# Altium footprint library mystery-LI.PcbLib: 10 footprints
Each footprint in its own frame and in the unit in brackets; x right, y up, seen from the top. Pads: shape width x height; smd on the part's side, far side on the other; paste and mask are expansions set on the pad; w line width, h text height; cw(c..) or ccw(c..) is an arc to the next point about the centre after c.
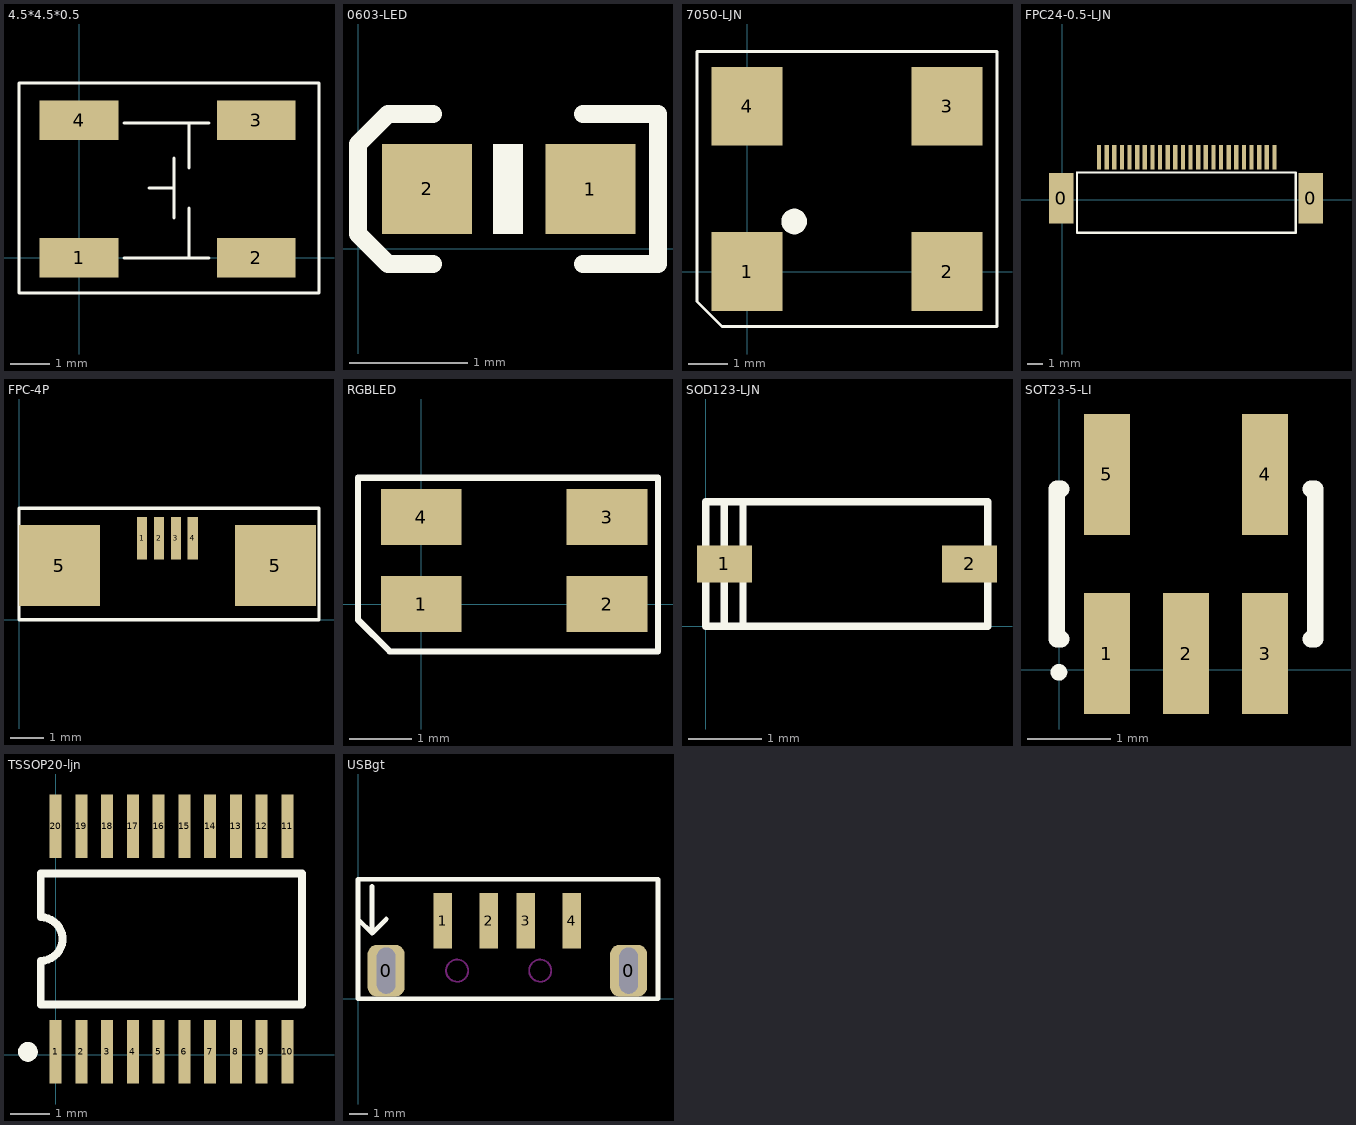
[diagram p0: the footprints below, top view; thin cyan lines are the x and y axes]

## 4.5*4.5*0.5 [mm]
pads (4):
  rect 2x1 smd: 1(0,0) 2(4.5,0) 3(4.5,3.5) 4(0,3.5)
Top Overlay:
  lines w0.076: 1.143,0 3.302,0 ; 1.143,3.429 3.302,3.429 ; 1.778,1.778 2.413,1.778 ; 2.413,1.016 2.413,2.54 ; 2.794,0 2.794,1.27 ; 2.794,2.286 2.794,3.429 ; -1.524,-0.889 6.096,-0.889 6.096,4.445 -1.524,4.445 -1.524,-0.889

## 0603-LED [mil]
pads (2):
  rect 30x30 smd: 1(77.5,19.94) 2(23,20)
Top Overlay:
  region: 55,4.94 55,34.94 45,34.94 45,4.94
  lines w6: 25,-5 10,-5 0,5 0,35 10,45 25,45 ; 75,-5 100,-5 100,45 75,45

## 7050-LJN [mm] "贴片有源晶振"
pads (4):
  rect 1.8x2 smd: 1(0,0) 2(5.08,0) 3(5.08,4.2) 4(0,4.2)
Top Overlay:
  circle w0.35: c1.197,1.27 r0.15
  lines w0.076: -1.27,-0.762 -1.27,5.588 6.35,5.588 6.35,-1.397 -0.635,-1.397 -1.27,-0.762

## FPC24-0.5-LJN [mil] "FPC排线24P"
pads (26):
  rect 62.99x130 smd: 0(-2.2,4.69) 0(641.8,4.69)
  rect 11x62.99 smd: 1(548.11,110) 2(528.42,110) 3(508.74,110) 4(489.05,110) 5(469.37,110) 6(449.68,110) 7(430,110) 8(410.31,110) 9(390.63,110) 10(370.94,110) 11(351.26,110) 12(331.57,110) 13(311.89,110) 14(292.2,110) 15(272.52,110) 16(252.83,110) 17(233.15,110) 18(213.46,110) 19(193.78,110) 20(174.09,110) 21(154.41,110) 22(134.72,110) 23(115.04,110) 24(95.35,110)
Top Overlay:
  lines w6: 38.42,-85 603.23,-85 603.23,70.63 115.04,70.63 38.74,70.63 38.42,70.31 38.42,-85

## FPC-4P [mm] "FPC柔性线排座"
pads (6):
  rect 0.3x1.25 smd: 1(3.65,2.413) 2(4.15,2.413) 3(4.65,2.413) 4(5.15,2.413)
  rect 2.4x2.4 smd: 5(1.2,1.6) 5(7.6,1.6)
Top Overlay:
  lines w0.1: 0,0 0,3.302 8.89,3.302 8.89,0 0,0

## RGBLED [mm] "三色LED"
pads (4):
  rect 1.3x0.9 smd: 1(0,0) 2(2.99,0) 3(2.99,1.4) 4(0,1.4)
Top Overlay:
  lines w0.1: -1.016,-0.254 -1.016,2.032 3.81,2.032 3.81,-0.762 -0.508,-0.762 -1.016,-0.254

## SOD123-LJN [mm]
pads (2):
  rect 0.75x0.5 smd: 1(0.254,0.85) 2(3.604,0.85)
Top Overlay:
  lines w0.102: 0.254,0 0.254,1.651 ; 0.508,0 0.508,1.651 ; 0,0 3.85,0 3.85,1.7 0,1.7 0,0

## SOT23-5-LI [mm]
pads (5):
  rect 0.55x1.45 smd: 1(0.574,0.195) 2(1.524,0.195) 3(2.474,0.195) 4(2.474,2.345) 5(0.574,2.345)
Top Overlay:
  circle w0.1: c-0.001,-0.03 r0.05
  lines w0.2: 0.024,0.37 -0.026,0.37 -0.026,2.17 0.024,2.17 ; 3.024,0.37 3.074,0.37 3.074,2.17 3.024,2.17

## TSSOP20-ljn [mm] "类似于STM8S003那种"
pads (20):
  rect 0.3x1.6 smd: 1(-0.004,0.071) 2(0.646,0.071) 3(1.296,0.071) 4(1.946,0.071) 5(2.596,0.071) 6(3.246,0.071) 7(3.896,0.071) 8(4.546,0.071) 9(5.196,0.071) 10(5.846,0.071) 11(5.846,5.771) 12(5.196,5.771) 13(4.546,5.771) 14(3.896,5.771) 15(3.246,5.771) 16(2.596,5.771) 17(1.946,5.771) 18(1.296,5.771) 19(0.646,5.771) 20(-0.004,5.771)
Top Overlay:
  circle w0.25: c-0.704,0.071 r0.125
  lines w0.2: -0.379,1.271 6.221,1.271 6.221,4.571 -0.379,4.571 -0.379,3.471 cw(c-0.379,2.921) -0.379,2.371 -0.379,1.271

## USBgt [mm] "贴片式usb2.0公头"
pads (6):
  rrect50% 2x2.8 hole 1 slot 2.5 at 90 deg: 0(1.524,1.524) 0(14.664,1.524)
  rect 1x3 smd: 1(4.594,4.234) 2(7.094,4.234) 3(9.094,4.234) 4(11.594,4.234)
Top Overlay:
  lines w0.254: 0,4.318 0.762,3.556 ; 0.762,6.096 0.762,3.556 ; 1.524,4.318 0.762,3.556 ; 0,0 16.256,0 16.256,6.477 0,6.477 0,0
Keep-Out Layer:
  circle w0.1: c9.874,1.524 r0.6
  circle w0.1: c5.374,1.524 r0.6